# EAGLE library part STEVAL-MKI142V1 (library sensors)
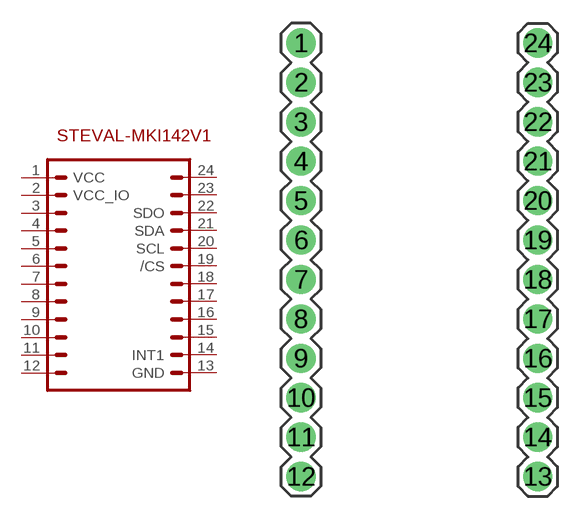
[diagram p3: symbol with the pads of STEVAL-MKI142V1_PADS; footprint STEVAL-MKI142V1_PADS]

Designator prefix -

## STEVAL-MKI142V1  [STEVAL-MKI142V1_PADS]
1  VCC  pas
2  VCC_IO  pas
3  P3  pas
4  P4  pas
5  P5  pas
6  P6  pas
7  P7  pas
8  P8  pas
9  P9  pas
10  P10  pas
11  P11  pas
12  P12  pas
13  GND  pas
14  INT1  pas
15  P15  pas
16  P16  pas
17  P17  pas
18  P18  pas
19  /CS  pas
20  SCL  pas
21  SDA  pas
22  SDO  pas
23  P23  pas
24  P24  pas

## Footprint STEVAL-MKI142V1_PADS (pad centres in mm)
drill 1.016 pad 1.88: 1 0,27.94; 2 0,25.4; 3 0,22.86; 4 0,20.32; 5 0,17.78; 6 0,15.24; 7 0,12.7; 8 0,10.16; 9 0,7.62; 10 0,5.08; 11 0,2.54; 12 0,0; 13 15.24,0; 14 15.24,2.54; 15 15.24,5.08; 16 15.24,7.62; 17 15.24,10.16; 18 15.24,12.7; 19 15.24,15.24; 20 15.24,17.78; 21 15.24,20.32; 22 15.24,22.86; 23 15.24,25.4; 24 15.24,27.94